# Altium schematic symbol library BatteryPack.SchLib: 1 symbol
Pins are listed as number, name and electrical type; pins without a type are passive.

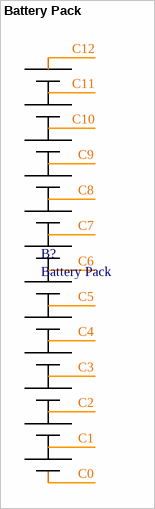
[diagram p0: symbol Battery Pack]

## Battery Pack
designator B?
12s3p battery pack, LiFePO4 GH Battery Cell with 3.7V and 8Ah
footprint Cells
pins: 0, 1, 2, 3, 4, 5, 6, 7, 8, 9, 10, 11, 12
text: C12; C11; C10; C9; C8; C7; C6; C5; C4; C3; C2; C1; C0